# Altium schematic symbol library DEP_REVC.SCHLIB: 6 symbols
Pins are listed as number, name and electrical type; pins without a type are passive.

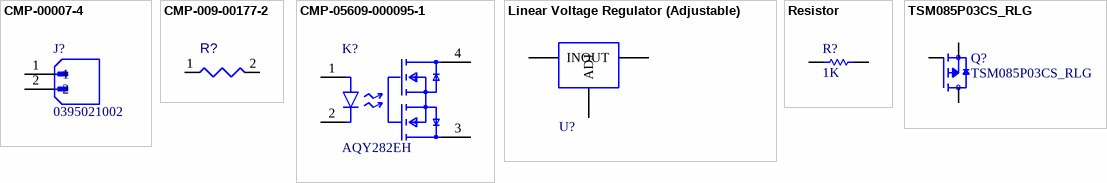
[diagram p0: symbols CMP-00007-4 to TSM085P03CS_RLG]

## CMP-00007-4
designator J?, comment 0395021002
Conn Shrouded Header (4 Sides) HDR 2 POS 3.5mm Solder RA Side Entry Thru-Hole Eurostyle™; Manufacturer: Molex; Voltage: 300V; Current: 8A; Gender: Male; Number of Contacts: 2; Depth: 9.2mm; Color: Black; Orientation: Right Angle; Max Operating Temperature: 105°C; Housing Color: Black; Termination: Solder; Mount: Through Hole; Length: 8.39mm; Housing Material: Polyamide; Pitch: 3.5mm; Min Operating Temperature: -40°C; Manufacturer Part Number: 0395021002
footprint 0395021002
pins: 1, 2

## CMP-009-00177-2
designator R?, comment 35221R5JT  (value not drawn)
Res Thick Film 2512 1.5 Ohm 5% 3W ±200ppm/°C Molded SMD T/R; Manufacturer: TE Connectivity CGS; Voltage Rating (DC): 250V; Resistance: 1.5; Power Rating: 3W; Voltage Rating: 250V; Mount: Surface Mount; Max Power Dissipation: 3W; Case Code (Metric): 6432; Resistance Tolerance: 5%; Manufacturer Part Number: 35221R5JT; Component Type: Resistors
footprint RESC6432X12N (Chip Resistor, 2-Leads, Body 6.35x3.20mm, IPC Medium Density)
pins: 1, 2
1 alternate drawing of the same symbol

## CMP-05609-000095-1
designator K?, comment AQY282EH
SSR RELAY SPST-NO 500MA 0-60V; Manufacturer: Panasonic; Forward Current: 1.8mA; Max Output Voltage: 60V; Input Type: DC; Max Input Current: 50mA; Throw Configuration: SPST; Isolation Voltage-Max: 5kV; On-state Resistance-Max: 2.5R; Output Voltage: 60V; Case/Package: DIP; Relay Type: Relay; Load Current: 500mA; Max Output Current: 500mA; Number of Pins: 4; Lead Free: Lead Free; Packaging: Rail/Tube; Series: PhotoMOS™ AQY; RoHS Compliant: Yes; Isolation Voltage: 5kV; Package Quantity: 100; Termination: PC Pin; On-State Resistance: 2.5R; Mount: Through Hole; Manufacturer Part Number: AQY282EH
footprint FP-AQY282EH-MFG
pins: 1 A, 2 C, 3 1 DRAIN, 4 2 DRAIN

## Linear Voltage Regulator (Adjustable)
designator U?, comment Positive Adjustable Voltage Regulator  (value not drawn)
SimulationGenericComponent: True
simulation model LM317 (POSITIVE ADJUSTABLE VOLTAGE REGULATOR)
footprint FP-936-03-MFG
pins: 1 IN, 2 ADJ, 3 OUT

## Resistor
designator R?  value 1K  (hidden comment: Resistor)
TC1: 0; SimulationGenericComponent: True; TC2: 0
simulation model R_Resistor_Default (Model Description)
footprint 6-0805_N (Chip Resistor, Body 2.0x1.2mm, IPC Medium Density)
pins: 1, 2

## TSM085P03CS_RLG
designator Q?
MF: {'manufacturer': u'Taiwan Semiconductor'}; Value: *; Price: None; Package: None; Availability: Unavailable; MP: TSM085P03CS_RLG
footprint SOP127P600X200-8N
pins: 1 S, 2 S, 3 S, 4 G, 5 D, 6 D, 7 D, 8 D